# Altium footprint library generic 32u4 lib 1.PcbLib: 25 footprints (part 2 of 2)
Each footprint in its own frame and in the unit in brackets; x right, y up, seen from the top. Pads: shape width x height; smd on the part's side, far side on the other; paste and mask are expansions set on the pad; w line width, h text height; cw(c..) or ccw(c..) is an arc to the next point about the centre after c.
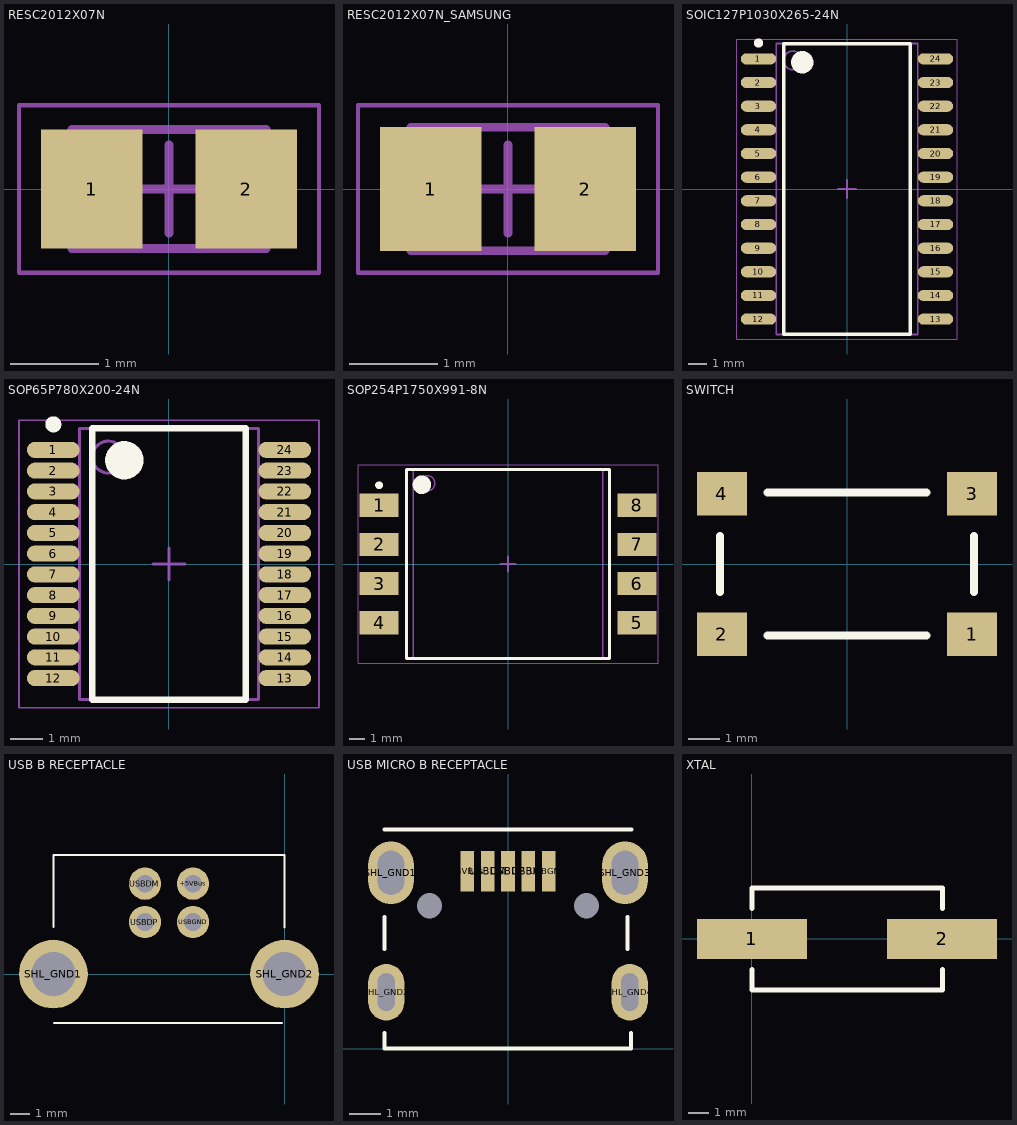
[diagram p1: the footprints below, top view; thin cyan lines are the x and y axes]

## RESC2012X07N [mm] "Chip Resistor, 2-Leads, Body 2.00x1.25mm, IPC Medium Density"
height 0.7
pads (2):
  rect 1.15x1.35 smd: 1(-0.875,0) 2(0.875,0)
Mechanical 13:
  lines w0.1: -1.1,-0.675 -1.1,0.675 1.1,0.675 1.1,-0.675 -1.1,-0.675
Mechanical 15:
  lines w0.05: -1.7,-0.95 -1.7,0.95 1.7,0.95 1.7,-0.95 -1.7,-0.95
  lines w0.1: -0.5,0 0.5,0 ; 0,-0.5 0,0.5
3D body: height 0.7, standoff 0, extent -0.7,-0.675 0.7,0.675
3D body: height 0.7, standoff 0, extent -1.1,-0.675 -0.7,0.675
3D body: height 0.7, standoff 0, extent 0.7,-0.675 1.1,0.675

## RESC2012X07N_SAMSUNG [mm] "Chip Resistor, 2-Leads, Body 2.00x1.25mm, IPC Medium Density"
height 0.65
pads (2):
  rect 1.15x1.4 smd: 1(-0.875,0) 2(0.875,0)
Mechanical 13:
  lines w0.1: -1.1,-0.7 -1.1,0.7 1.1,0.7 1.1,-0.7 -1.1,-0.7
Mechanical 15:
  lines w0.05: -1.7,-0.95 -1.7,0.95 1.7,0.95 1.7,-0.95 -1.7,-0.95
  lines w0.1: -0.5,0 0.5,0 ; 0,-0.5 0,0.5
3D body "RESC2012X07N_0-OHM-JMP.step": height 0.65, standoff 0, extent -1.1,-0.7 1.1,0.7

## SOIC127P1030X265-24N [mm] "SOIC, 24-Leads, Body 15.40x7.50mm, Pitch 1.27mm, IPC Medium Density"
height 2.65
pads (24):
  oval 1.9x0.6 smd: 1(-4.75,6.985) 2(-4.75,5.715) 3(-4.75,4.445) 4(-4.75,3.175) 5(-4.75,1.905) 6(-4.75,0.635) 7(-4.75,-0.635) 8(-4.75,-1.905) 9(-4.75,-3.175) 10(-4.75,-4.445) 11(-4.75,-5.715) 12(-4.75,-6.985) 13(4.75,-6.985) 14(4.75,-5.715) 15(4.75,-4.445) 16(4.75,-3.175) 17(4.75,-1.905) 18(4.75,-0.635) 19(4.75,0.635) 20(4.75,1.905) 21(4.75,3.175) 22(4.75,4.445) 23(4.75,5.715) 24(4.75,6.985)
Top Overlay:
  circle w0.6: c-2.4,6.8 r0.3
  circle w0.25: c-4.75,7.835 r0.125
  lines w0.2: -3.4,-7.8 3.4,-7.8 3.4,7.8 -3.4,7.8 -3.4,-7.8
Mechanical 13:
  circle w0.1: c-2.9,6.9 r0.5
  lines w0.1: -3.8,-7.8 3.8,-7.8 3.8,7.8 -3.8,7.8 -3.8,-7.8
Mechanical 15:
  lines w0.05: -5.925,-8.05 5.925,-8.05 5.925,8.05 -5.925,8.05 -5.925,-8.05
  lines w0.1: -0.5,0 0.5,0 ; 0,-0.5 0,0.5
3D body "SOIC127P1030X265-24N.step": height 2.65, standoff 0, extent -5.15,-7.8 5.15,7.8

## SOP65P780X200-24N [mm] "SOP, 24-Leads, Body 8.20x5.30mm, Pitch 0.65mm, IPC Medium Density"
height 2
pads (24):
  oval 1.65x0.5 smd: 1(-3.625,3.575) 2(-3.625,2.925) 3(-3.625,2.275) 4(-3.625,1.625) 5(-3.625,0.975) 6(-3.625,0.325) 7(-3.625,-0.325) 8(-3.625,-0.975) 9(-3.625,-1.625) 10(-3.625,-2.275) 11(-3.625,-2.925) 12(-3.625,-3.575) 13(3.625,-3.575) 14(3.625,-2.925) 15(3.625,-2.275) 16(3.625,-1.625) 17(3.625,-0.975) 18(3.625,-0.325) 19(3.625,0.325) 20(3.625,0.975) 21(3.625,1.625) 22(3.625,2.275) 23(3.625,2.925) 24(3.625,3.575)
Top Overlay:
  circle w0.25: c-3.625,4.375 r0.125
  circle w0.6: c-1.4,3.25 r0.3
  lines w0.2: -2.4,-4.25 -2.4,4.25 2.4,4.25 2.4,-4.25 -2.4,-4.25
Mechanical 13:
  circle w0.1: c-1.9,3.35 r0.5
  lines w0.1: -2.8,-4.25 -2.8,4.25 2.8,4.25 2.8,-4.25 -2.8,-4.25
Mechanical 15:
  lines w0.05: -4.7,-4.5 -4.7,4.5 4.7,4.5 4.7,-4.5 -4.7,-4.5
  lines w0.1: -0.5,0 0.5,0 ; 0,-0.5 0,0.5
3D body "DB24.stp": height 2.01, standoff 0, extent -4.102,-4.254 4.102,4.255

## SOP254P1750X991-8N [mm] "SOP, 8-Leads, Body 12.07x12.07mm, Pitch 2.54mm, IPC Medium Density"
height 9.91
pads (8):
  rect 2.54x1.52 smd: 1(-8.38,3.81) 2(-8.38,1.27) 3(-8.38,-1.27) 4(-8.38,-3.81) 5(8.38,-3.81) 6(8.38,-1.27) 7(8.38,1.27) 8(8.38,3.81)
Top Overlay:
  circle w0.25: c-8.38,5.12 r0.125
  circle w0.6: c-5.6,5.15 r0.3
  lines w0.2: -6.6,-6.15 -6.6,6.15 6.6,6.15 6.6,-6.15 -6.6,-6.15
Mechanical 13:
  circle w0.1: c-5.25,5.25 r0.5
  lines w0.1: -6.15,-6.15 -6.15,6.15 6.15,6.15 6.15,-6.15 -6.15,-6.15
Mechanical 15:
  lines w0.05: -9.75,-6.45 -9.75,6.45 9.75,6.45 9.75,-6.45 -9.75,-6.45
  lines w0.1: -0.5,0 0.5,0 ; 0,-0.5 0,0.5
3D body "SOP254P1750X991-8N.step": height 9.91, standoff 0, extent -8.763,-6.15 8.763,6.15

## SWITCH [mm] "SWITCH"
height 6.3
pads (4):
  rect 1.6x1.4 smd: 1(4,-2.25) 2(-4,-2.25) 3(4,2.25) 4(-4,2.25)
Top Overlay:
  lines w0.254: -4.064,-0.889 -4.064,0.889 ; -2.54,-2.286 2.54,-2.286 ; -2.54,2.286 2.54,2.286 ; 4.064,-0.889 4.064,0.889
3D body "B3FS_101[].step": height 4.3, standoff 0, extent -4,-3.15 4,3.15

## USB B RECEPTACLE [mm] "Amphenol 61729-1011BLF"
height 10.5
pads (6):
  round 1.682 hole 0.92: +5VBus(-4.77,4.71) USBDM(-7.27,4.71) USBDP(-7.27,2.71) USBGND(-4.77,2.71)
  round 3.581 hole 2.3: SHL_GND1(-12.04,0) SHL_GND2(0,0)
Top Overlay:
  lines w0.1: -12.04,2.438 -12.04,6.195 0,6.195 0,2.413 ; -12.014,-2.54 -0.127,-2.54
3D body "COLOR29.STEP": height 11, standoff -2.8, extent -12.612,-10.129 0.508,5.811

## USB MICRO B RECEPTACLE [mm] "Wurth Electronics Inc - 629105150521"
height 2.6
pads (11):
  rect 0.432x1.3 smd: +5VBus(-1.3,5.65) USBDM(-0.65,5.65) USBDP(0,5.65) USBGND(1.3,5.65) USBID(0.65,5.65)
  round 0 hole 0.8 unplated: H1(-2.5,4.55) H2(2.5,4.55)
  oval 1.45x2 hole 0.85 slot 1.4 at 90 deg: SHL_GND1(-3.725,5.6) SHL_GND3(3.725,5.6)
  oval 1.15x1.8 hole 0.55 slot 1.2 at 90 deg: SHL_GND2(-3.875,1.8) SHL_GND4(3.875,1.8)
Top Overlay:
  lines w0.127: -3.937,0.508 -3.937,0 3.912,0 3.912,0.508 ; -3.937,3.175 -3.937,4.191 ; -3.937,6.985 3.937,6.985 ; 3.81,3.175 3.81,4.191
  text "." at -1.397,6.604 h1.27
Top Solder:
  region: -1.651,6.477 1.651,6.477 1.651,4.826 -1.651,4.826

## XTAL [mm]
height 4.1
pads (2):
  rect 5.5x2 smd: 1(0,0) 2(9.5,0)
Top Overlay:
  lines w0.254: 0,-1.524 0,-2.54 9.525,-2.54 9.525,-1.524 ; 0,1.524 0,2.54 9.525,2.54 9.525,1.524
3D body "User Library-Crystal HC49_US-SM.STEP": height 4.3, standoff 0, extent -1.701,-2.415 11.099,2.415